# EAGLE library part MAGIC_CAN_BACKPACK (library Buckeye Current)
Magic CAN Node backpack, current as of 2013-11-16 NOTE: There are other connectors you should be aware of on MCN (especially the two AMPSEAL connectors at the bottom of the board). Be careful of your z-height on the bottom side of the board. Consult MCN schematic when unsure.
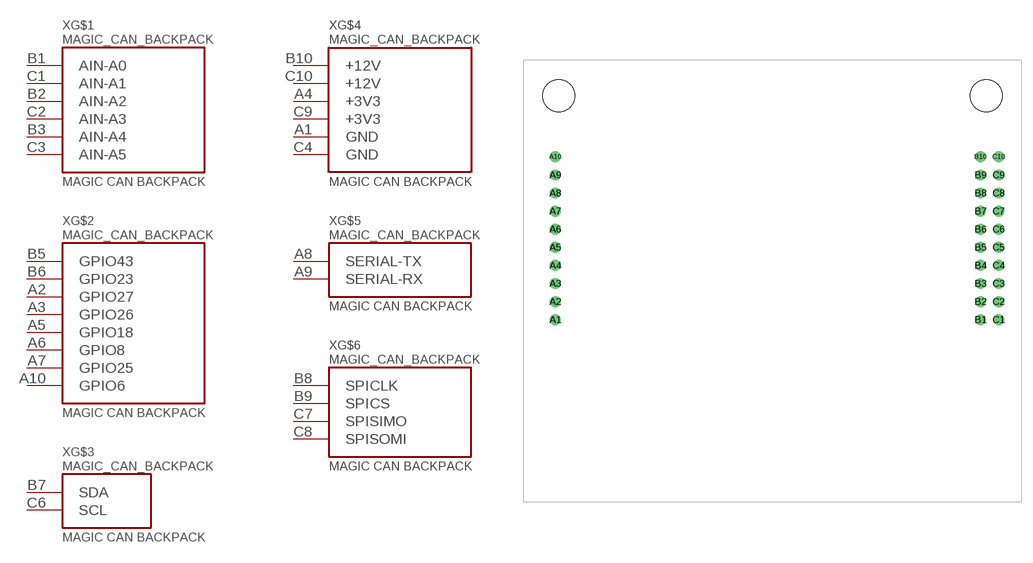
[diagram p0: symbol with the pads of MAGIC_CAN_BACKPACK; footprint MAGIC_CAN_BACKPACK]

Designator prefix X; gates G$1=MCB_ANALOG G$2=MCB_GPIO G$3=MCB_I2C G$4=MCB_POWER G$5=MCB_SERIAL G$6=MCB_SPI

## MAGIC_CAN_BACKPACK  [MAGIC_CAN_BACKPACK]
A1  G$4:GND  pwr
A2  G$2:GPIO27
A3  G$2:GPIO26
A4  G$4:+3V3  pwr
A5  G$2:GPIO18
A6  G$2:GPIO8
A7  G$2:GPIO25
A8  G$5:SERIAL-TX  out
A9  G$5:SERIAL-RX  in
A10  G$2:GPIO6
B1  G$1:AIN-A0  in
B2  G$1:AIN-A2  in
B3  G$1:AIN-A4  in
B5  G$2:GPIO43
B6  G$2:GPIO23
B7  G$3:SDA
B8  G$6:SPICLK  out
B9  G$6:SPICS  out
B10  G$4:+12V  pwr
C1  G$1:AIN-A1  in
C2  G$1:AIN-A3  in
C3  G$1:AIN-A5  in
C4  G$4:GND  pwr
C6  G$3:SCL
C7  G$6:SPISIMO  out
C8  G$6:SPISOMI  in
C9  G$4:+3V3  pwr
C10  G$4:+12V  pwr

## Footprint MAGIC_CAN_BACKPACK (pad centres in mm)
drill 1.016 round: A1 -30.48,25.57; A2 -30.48,28.11; A3 -30.48,30.65; A4 -30.48,33.19; A5 -30.48,35.73; A6 -30.48,38.27; A7 -30.48,40.81; A8 -30.48,43.35; A9 -30.48,45.89; A10 -30.48,48.43; B1 29.21,25.57; B2 29.21,28.11; B3 29.21,30.65; B4 29.21,33.19; B5 29.21,35.73; B6 29.21,38.27; B7 29.21,40.81; B8 29.21,43.35; B9 29.21,45.89; B10 29.21,48.43; C1 31.75,25.57; C2 31.75,28.11; C3 31.75,30.65; C4 31.75,33.19; C5 31.75,35.73; C6 31.75,38.27; C7 31.75,40.81; C8 31.75,43.35; C9 31.75,45.89; C10 31.75,48.43
hole 4.5 at 30,57
hole 4.5 at -30,57